# Altium schematic symbol library GRM31CR71E475KA88L.SchLib: 1 symbol
Pins are listed as number, name and electrical type; pins without a type are passive.

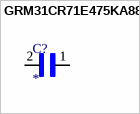
[diagram p0: symbol GRM31CR71E475KA88L]

## GRM31CR71E475KA88L
designator C?
KC 4,7uF 1206 10% 25V X7R; MP: GRM31CR71E475KA88L; MF: {'manufacturer': u'Murata Electronics'}; Price: None; Availability: Unavailable; Value: *; Package: None
footprint CAP3216X125N
pins: 1, 2